# EAGLE library part NS8002 (library IC)
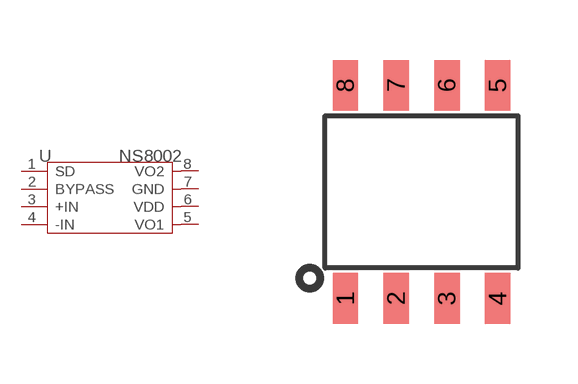
[diagram p182: symbol with the pads of SOP8-W/O-HEAT; footprint SOP8-W/O-HEAT]

Designator prefix U

## NS8002  [SOP8-W/O-HEAT]
1  SD
2  BYPASS
3  +IN  in
4  -IN  in
5  VO1  out
6  VDD  sup
7  GND  sup
8  VO2  out

## Footprint SOP8-W/O-HEAT (pad centres in mm)
smd 0.635 x 1.27: 1 -1.905,-2.667; 2 -0.635,-2.667; 3 0.635,-2.667; 4 1.905,-2.667; 5 1.905,2.667; 6 0.635,2.667; 7 -0.635,2.667; 8 -1.905,2.667